# EAGLE library part MOD_EYSFCNZXX (library akita)
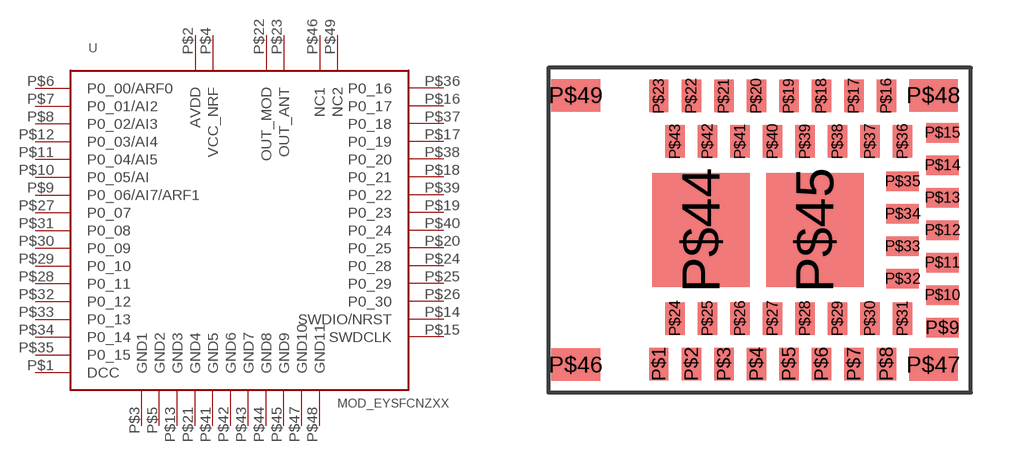
[diagram p81: symbol with the pads of MOD_EYSFCNZXX; footprint MOD_EYSFCNZXX]

Designator prefix -

## MOD_EYSFCNZXX  [MOD_EYSFCNZXX]
P$1  DCC
P$2  AVDD
P$3  GND1
P$4  VCC_NRF
P$5  GND2
P$6  P0_00/ARF0
P$7  P0_01/AI2
P$8  P0_02/AI3
P$9  P0_06/AI7/ARF1
P$10  P0_05/AI
P$11  P0_04/AI5
P$12  P0_03/AI4
P$13  GND3
P$14  SWDIO/NRST
P$15  SWDCLK
P$16  P0_17
P$17  P0_19
P$18  P0_21
P$19  P0_23
P$20  P0_25
P$21  GND4
P$22  OUT_MOD
P$23  OUT_ANT
P$24  P0_28
P$25  P0_29
P$26  P0_30
P$27  P0_07
P$28  P0_11
P$29  P0_10
P$30  P0_09
P$31  P0_08
P$32  P0_12
P$33  P0_13
P$34  P0_14
P$35  P0_15
P$36  P0_16
P$37  P0_18
P$38  P0_20
P$39  P0_22
P$40  P0_24
P$41  GND5
P$42  GND6
P$43  GND7
P$44  GND8
P$45  GND9
P$46  NC1
P$47  GND10
P$48  GND11
P$49  NC2

## Footprint MOD_EYSFCNZXX (pad centres in mm)
smd 0.6 x 1: P$1 -2.6,-4.125; P$2 -1.6,-4.125; P$3 -0.6,-4.125; P$4 0.4,-4.125; P$5 1.4,-4.125; P$6 2.4,-4.125; P$7 3.4,-4.125; P$8 4.4,-4.125; P$16 4.4,4.125; P$17 3.4,4.125; P$18 2.4,4.125; P$19 1.4,4.125; P$20 0.4,4.125; P$21 -0.6,4.125; P$22 -1.6,4.125; P$23 -2.6,4.125; P$24 -2.1,-2.725; P$25 -1.1,-2.725; P$26 -0.1,-2.725; P$27 0.9,-2.725; P$28 1.9,-2.725; P$29 2.9,-2.725; P$30 3.9,-2.725; P$31 4.9,-2.725; P$36 4.9,2.725; P$37 3.9,2.725; P$38 2.9,2.725; P$39 1.9,2.725; P$40 0.9,2.725; P$41 -0.1,2.725; P$42 -1.1,2.725; P$43 -2.1,2.725
smd 1 x 0.6: P$9 6.125,-3; P$10 6.125,-2; P$11 6.125,-1; P$12 6.125,0; P$13 6.125,1; P$14 6.125,2; P$15 6.125,3; P$32 4.9,-1.5; P$33 4.9,-0.5; P$34 4.9,0.5; P$35 4.9,1.5
smd 3 x 3.5: P$44 -1.3,0; P$45 2.2,0
smd 1.5 x 1: P$46 -5.15,-4.15; P$47 5.85,-4.15; P$48 5.85,4.15; P$49 -5.15,4.15